# Altium schematic symbol library SCH_Switch.SchLib: 13 symbols
Pins are listed as number, name and electrical type; pins without a type are passive.

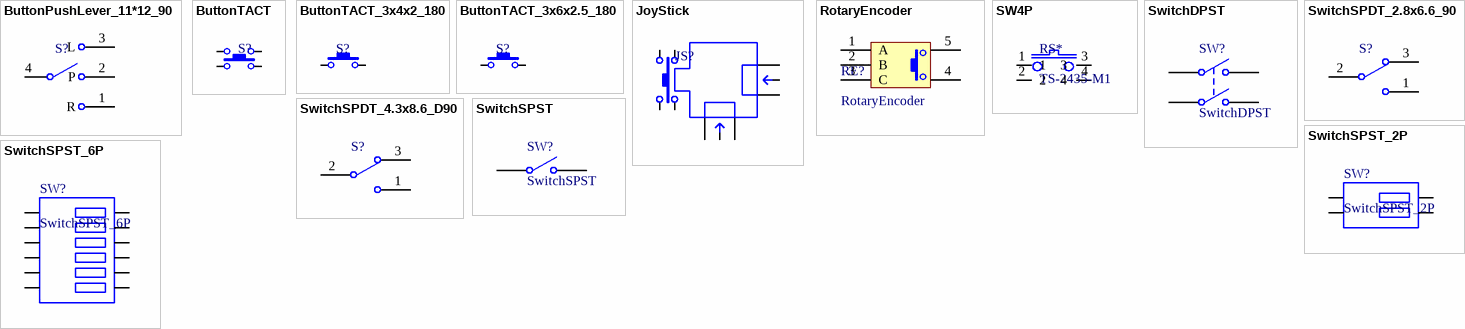
[diagram p0: symbols ButtonPushLever_11*12_90 to SwitchSPST_6P]

## ButtonPushLever_11*12_90
designator S?  (value not drawn)
Button
footprint ButtonPushLever_11*12_90
pins: 1 R, 2 P, 3 L, 4

## ButtonTACT
designator S?  (value not drawn)
Button
footprint ButtonTACT_3.5*3.55_90
pins: 1, 2, 3, 4

## ButtonTACT_3x4x2_180
designator S?  (value not drawn)
Button
footprint ButtonTACT_3x4x2_180
footprint ButtonTACT_3x4x2_180H
pins: 1, 2

## ButtonTACT_3x6x2.5_180
designator S?  (value not drawn)
Button
footprint ButtonTACT_3x6x2.5_180
pins: 1, 2

## JoyStick
designator JS?  (value not drawn)
footprint JoyStick
pins: 1, 2, 3, 4, 5, 6, 7, 8, 9, 10

## RotaryEncoder
designator RE?
Encoder
footprint RotaryEncoder
pins: 1 A, 2 B, 3 C, 4, 5

## SW4P
designator RS*, comment TS-2435-M1
KEY,SMT,TS-2435-M1
footprint TS-2435-M1
pins: 1, 2, 3, 4

## SwitchDPST
designator SW?
Switch
footprint DPST-4 (Switch; 4 Leads)
pins: 1 COMMON1, 2 NO1, 3 COMMON2, 4 NO2

## SwitchSPDT_2.8x6.6_90
designator S?  (value not drawn)
Switch
footprint SwitchSPDT_2.8X6.6_90
pins: 1, 2, 3

## SwitchSPDT_4.3x8.6_D90
designator S?  (value not drawn)
Switch
footprint SwitchSPDT_4.3X8.6_D90
pins: 1, 2, 3

## SwitchSPST
designator SW?
Switch
footprint SPST-2 (Switch; 2 Leads)
pins: 1 COMMON, 2 NO

## SwitchSPST_2P
designator SW?
Switch
footprint SwitchSPDT_P2_180
pins: 1 COMMON, 1ON ON, 2 COMMON, 2ON NO

## SwitchSPST_6P
designator SW?
Switch
footprint SwitchSPDT_P6_180
pins: 1 COMMON, 1ON ON, 2 COMMON, 2ON NO, 3 COMMON, 3ON NO, 4 COMMON, 4ON NO, 5 COMMON, 5ON NO, 6 COMMON, 6ON NO